# Altium footprint library hsbest.PcbLib: 389 footprints (part 4 of 25)
Each footprint in its own frame and in the unit in brackets; x right, y up, seen from the top. Pads: shape width x height; smd on the part's side, far side on the other; paste and mask are expansions set on the pad; w line width, h text height; cw(c..) or ccw(c..) is an arc to the next point about the centre after c.
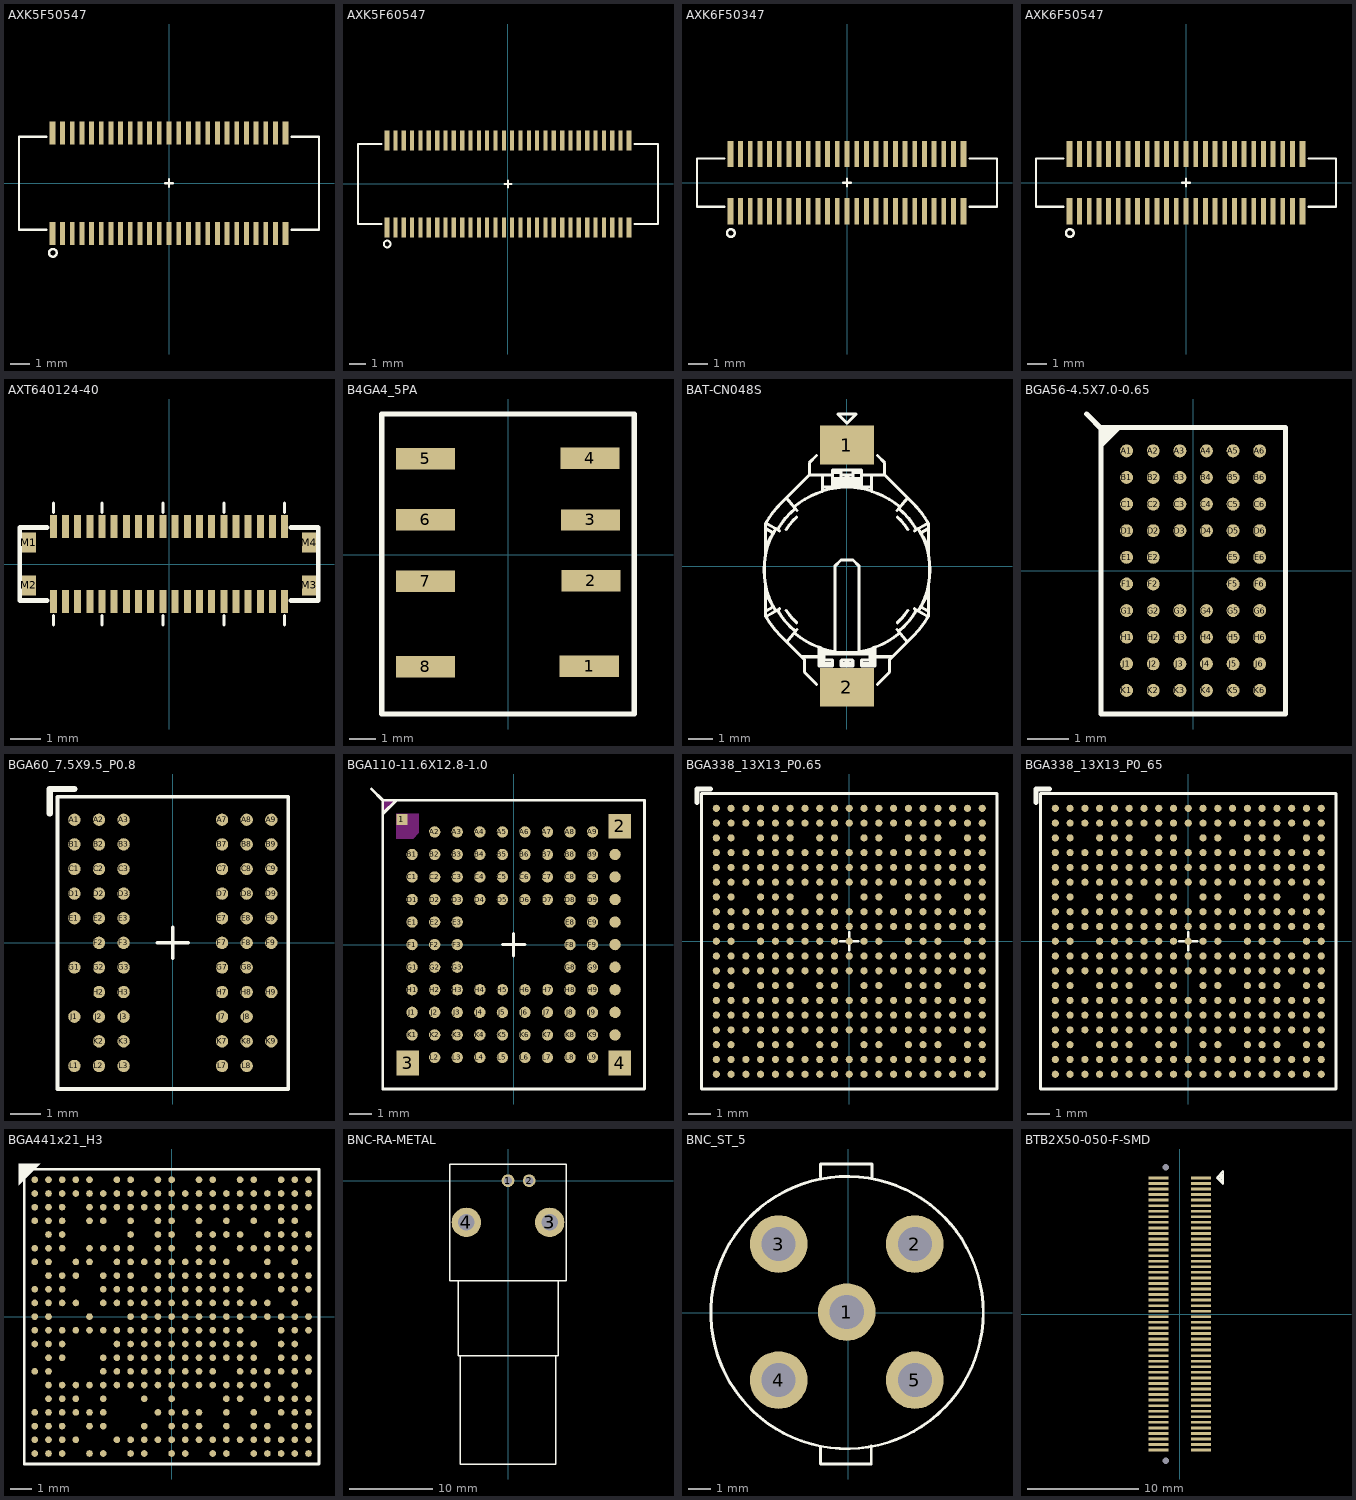
[diagram p3: the footprints below, top view; thin cyan lines are the x and y axes]

## AXK5F50547 [mm]
pads (50):
  rect 0.3x1.2 smd: 1(-6.025,-2.6) 2(-6.025,2.6) 49(6.025,-2.6) 50(6.025,2.6)
  rect 0.25x1.2 smd: 3(-5.5,-2.6) 4(-5.5,2.6) 5(-5,-2.6) 6(-5,2.6) 7(-4.5,-2.6) 8(-4.5,2.6) 9(-4,-2.6) 10(-4,2.6) 11(-3.5,-2.6) 12(-3.5,2.6) 13(-3,-2.6) 14(-3,2.6) 15(-2.5,-2.6) 16(-2.5,2.6) 17(-2,-2.6) 18(-2,2.6) 19(-1.5,-2.6) 20(-1.5,2.6) 21(-1,-2.6) 22(-1,2.6) 23(-0.5,-2.6) 24(-0.5,2.6) 25(0,-2.6) 26(0,2.6) 27(0.5,-2.6) 28(0.5,2.6) 29(1,-2.6) 30(1,2.6) 31(1.5,-2.6) 32(1.5,2.6) 33(2,-2.6) 34(2,2.6) 35(2.5,-2.6) 36(2.5,2.6) 37(3,-2.6) 38(3,2.6) 39(3.5,-2.6) 40(3.5,2.6) 41(4,-2.6) 42(4,2.6) 43(4.5,-2.6) 44(4.5,2.6) 45(5,-2.6) 46(5,2.6) 47(5.5,-2.6) 48(5.5,2.6)
Top Overlay:
  circle w0.12: c-6,-3.6 r0.2
  lines w0.12: -6.35,-2.4 -7.75,-2.4 -7.75,2.4 -6.35,2.4 ; -0.2,0 0.2,0 ; 0,-0.2 0,0.2 ; 6.35,-2.4 7.75,-2.4 7.75,2.4 6.35,2.4
3D body: height 1.85, standoff 0, extent -7.75,-2.912 7.75,2.888

## AXK5F60547 [mm]
pads (60):
  rect 0.3x1.2 smd: 1(-7.275,-2.6) 2(-7.275,2.6) 59(7.275,-2.6) 60(7.275,2.6)
  rect 0.25x1.2 smd: 3(-6.75,-2.6) 4(-6.75,2.6) 5(-6.25,-2.6) 6(-6.25,2.6) 7(-5.75,-2.6) 8(-5.75,2.6) 9(-5.25,-2.6) 10(-5.25,2.6) 11(-4.75,-2.6) 12(-4.75,2.6) 13(-4.25,-2.6) 14(-4.25,2.6) 15(-3.75,-2.6) 16(-3.75,2.6) 17(-3.25,-2.6) 18(-3.25,2.6) 19(-2.75,-2.6) 20(-2.75,2.6) 21(-2.25,-2.6) 22(-2.25,2.6) 23(-1.75,-2.6) 24(-1.75,2.6) 25(-1.25,-2.6) 26(-1.25,2.6) 27(-0.75,-2.6) 28(-0.75,2.6) 29(-0.25,-2.6) 30(-0.25,2.6) 31(0.25,-2.6) 32(0.25,2.6) 33(0.75,-2.6) 34(0.75,2.6) 35(1.25,-2.6) 36(1.25,2.6) 37(1.75,-2.6) 38(1.75,2.6) 39(2.25,-2.6) 40(2.25,2.6) 41(2.75,-2.6) 42(2.75,2.6) 43(3.25,-2.6) 44(3.25,2.6) 45(3.75,-2.6) 46(3.75,2.6) 47(4.25,-2.6) 48(4.25,2.6) 49(4.75,-2.6) 50(4.75,2.6) 51(5.25,-2.6) 52(5.25,2.6) 53(5.75,-2.6) 54(5.75,2.6) 55(6.25,-2.6) 56(6.25,2.6) 57(6.75,-2.6) 58(6.75,2.6)
Top Overlay:
  circle w0.12: c-7.25,-3.6 r0.2
  lines w0.12: -7.6,-2.4 -9,-2.4 -9,2.4 -7.6,2.4 ; -0.2,0 0.2,0 ; 0,-0.2 0,0.2 ; 7.6,-2.4 9,-2.4 9,2.4 7.6,2.4

## AXK6F50347 [mm]
pads (50):
  rect 0.3x1.35 smd: 1(-6.025,-1.475) 2(-6.025,1.475) 49(6.025,-1.475) 50(6.025,1.475)
  rect 0.25x1.35 smd: 3(-5.5,-1.475) 4(-5.5,1.475) 5(-5,-1.475) 6(-5,1.475) 7(-4.5,-1.475) 8(-4.5,1.475) 9(-4,-1.475) 10(-4,1.475) 11(-3.5,-1.475) 12(-3.5,1.475) 13(-3,-1.475) 14(-3,1.475) 15(-2.5,-1.475) 16(-2.5,1.475) 17(-2,-1.475) 18(-2,1.475) 19(-1.5,-1.475) 20(-1.5,1.475) 21(-1,-1.475) 22(-1,1.475) 23(-0.5,-1.475) 24(-0.5,1.475) 25(0,-1.475) 26(0,1.475) 27(0.5,-1.475) 28(0.5,1.475) 29(1,-1.475) 30(1,1.475) 31(1.5,-1.475) 32(1.5,1.475) 33(2,-1.475) 34(2,1.475) 35(2.5,-1.475) 36(2.5,1.475) 37(3,-1.475) 38(3,1.475) 39(3.5,-1.475) 40(3.5,1.475) 41(4,-1.475) 42(4,1.475) 43(4.5,-1.475) 44(4.5,1.475) 45(5,-1.475) 46(5,1.475) 47(5.5,-1.475) 48(5.5,1.475)
Top Overlay:
  circle w0.12: c-6,-2.6 r0.2
  lines w0.12: -6.35,-1.25 -7.75,-1.25 -7.75,1.25 -6.35,1.25 ; -0.2,0 0.2,0 ; 0,-0.2 0,0.2 ; 6.35,-1.25 7.75,-1.25 7.75,1.25 6.35,1.25
3D body: height 1.25, standoff 0, extent -7.746,-1.66 7.754,1.64

## AXK6F50547 [mm]
pads (50):
  rect 0.3x1.35 smd: 1(-6.025,-1.475) 2(-6.025,1.475) 49(6.025,-1.475) 50(6.025,1.475)
  rect 0.25x1.35 smd: 3(-5.5,-1.475) 4(-5.5,1.475) 5(-5,-1.475) 6(-5,1.475) 7(-4.5,-1.475) 8(-4.5,1.475) 9(-4,-1.475) 10(-4,1.475) 11(-3.5,-1.475) 12(-3.5,1.475) 13(-3,-1.475) 14(-3,1.475) 15(-2.5,-1.475) 16(-2.5,1.475) 17(-2,-1.475) 18(-2,1.475) 19(-1.5,-1.475) 20(-1.5,1.475) 21(-1,-1.475) 22(-1,1.475) 23(-0.5,-1.475) 24(-0.5,1.475) 25(0,-1.475) 26(0,1.475) 27(0.5,-1.475) 28(0.5,1.475) 29(1,-1.475) 30(1,1.475) 31(1.5,-1.475) 32(1.5,1.475) 33(2,-1.475) 34(2,1.475) 35(2.5,-1.475) 36(2.5,1.475) 37(3,-1.475) 38(3,1.475) 39(3.5,-1.475) 40(3.5,1.475) 41(4,-1.475) 42(4,1.475) 43(4.5,-1.475) 44(4.5,1.475) 45(5,-1.475) 46(5,1.475) 47(5.5,-1.475) 48(5.5,1.475)
Top Overlay:
  circle w0.12: c-6,-2.6 r0.2
  lines w0.12: -6.35,-1.25 -7.75,-1.25 -7.75,1.25 -6.35,1.25 ; -0.2,0 0.2,0 ; 0,-0.2 0,0.2 ; 6.35,-1.25 7.75,-1.25 7.75,1.25 6.35,1.25

## AXT640124-40 [mm]
pads (44):
  rect 0.23x0.75 smd: G1(-3.8,1.23) G2(-3.4,1.23) G3(-3,1.23) G4(-2.6,1.23) G5(-2.2,1.23) G6(-1.8,1.23) G7(-1.4,1.23) G8(-1,1.23) G9(-0.6,1.23) G10(-0.2,1.23) G11(0.2,1.23) G12(0.6,1.23) G13(1,1.23) G14(1.4,1.23) G15(1.8,1.23) G16(2.2,1.23) G17(2.6,1.23) G18(3,1.23) G19(3.4,1.23) G20(3.8,1.23) H1(-3.8,-1.23) H2(-3.4,-1.23) H3(-3,-1.23) H4(-2.6,-1.23) H5(-2.2,-1.23) H6(-1.8,-1.23) H7(-1.4,-1.23) H8(-1,-1.23) H9(-0.6,-1.23) H10(-0.2,-1.23) H11(0.2,-1.23) H12(0.6,-1.23) H13(1,-1.23) H14(1.4,-1.23) H15(1.8,-1.23) H16(2.2,-1.23) H17(2.6,-1.23) H18(3,-1.23) H19(3.4,-1.23) H20(3.8,-1.23)
  rect 0.45x0.655 smd: M1(-4.6,0.7) M2(-4.6,-0.7) M3(4.6,-0.7) M4(4.6,0.7)
Top Overlay:
  lines w0.1: -3.8,-2 -3.8,-1.7 ; -3.8,1.7 -3.8,2 ; -2.2,-2 -2.2,-1.7 ; -2.2,1.7 -2.2,2 ; -0.2,-2 -0.2,-1.7 ; -0.2,1.7 -0.2,2 ; 1.8,-2 1.8,-1.7 ; 1.8,1.7 1.8,2 ; 3.8,-2 3.8,-1.7 ; 3.8,1.7 3.8,2
  lines w0.15: -4,-1.2 -4.9,-1.2 -4.9,1.2 -4,1.2 ; 4,-1.2 4.9,-1.2 4.9,1.2 4,1.2

## B4GA4_5PA [mm]
pads (8):
  rect 2.2x0.8 smd: 1(3.015,-4.162) 2(3.072,-0.975) 3(3.059,1.289) 4(3.038,3.581) 5(-3.091,3.567) 6(-3.091,1.296) 7(-3.091,-0.987) 8(-3.091,-4.18)
Top Overlay:
  lines w0.2: -4.711,-5.938 -4.711,5.238 4.687,5.238 4.687,-5.938 -4.711,-5.938

## BAT-CN048S [mm]
pads (2):
  rect 2.2x1.6 smd: 1(0,4.975) 2(0,-4.975)
Top Overlay:
  drawing of 249 lines, arcs and shapes, not listed
3D body: height 2.8, standoff 0, extent -3.385,-5.218 3.315,5.182

## BGA56-4.5X7.0-0.65 [mm]
pads (56):
  round 0.315 smd: A1(-1.625,2.925) A2(-0.975,2.925) A3(-0.325,2.925) A4(0.325,2.925) A5(0.975,2.925) A6(1.625,2.925) B1(-1.625,2.275) B2(-0.975,2.275) B3(-0.325,2.275) B4(0.325,2.275) B5(0.975,2.275) B6(1.625,2.275) C1(-1.625,1.625) C2(-0.975,1.625) C3(-0.325,1.625) C4(0.325,1.625) C5(0.975,1.625) C6(1.625,1.625) D1(-1.625,0.975) D2(-0.975,0.975) D3(-0.325,0.975) D4(0.325,0.975) D5(0.975,0.975) D6(1.625,0.975) E1(-1.625,0.325) E2(-0.975,0.325) E5(0.975,0.325) E6(1.625,0.325) F1(-1.625,-0.325) F2(-0.975,-0.325) F5(0.975,-0.325) F6(1.625,-0.325) G1(-1.625,-0.975) G2(-0.975,-0.975) G3(-0.325,-0.975) G4(0.325,-0.975) G5(0.975,-0.975) G6(1.625,-0.975) H1(-1.625,-1.625) H2(-0.975,-1.625) H3(-0.325,-1.625) H4(0.325,-1.625) H5(0.975,-1.625) H6(1.625,-1.625) J1(-1.625,-2.275) J2(-0.975,-2.275) J3(-0.325,-2.275) J4(0.325,-2.275) J5(0.975,-2.275) J6(1.625,-2.275) K1(-1.625,-2.925) K2(-0.975,-2.925) K3(-0.325,-2.925) K4(0.325,-2.925) K5(0.975,-2.925) K6(1.625,-2.925)
Top Overlay:
  lines w0.125: -2.6,3.825 -2.2,3.425 ; -2.25,3.063 -1.813,3.5 ; -2.25,3.125 -1.875,3.5 ; -2.25,3.25 -2,3.5 ; -2.25,-3.5 -2.25,3.5 2.25,3.5 2.25,-3.5 -2.25,-3.5

## BGA60_7.5X9.5_P0.8 [mm]
height 1.1
pads (60):
  round 0.4 smd: A1(-3.2,4) A2(-2.4,4) A3(-1.6,4) A7(1.6,4) A8(2.4,4) A9(3.2,4) B1(-3.2,3.2) B2(-2.4,3.2) B3(-1.6,3.2) B7(1.6,3.2) B8(2.4,3.2) B9(3.2,3.2) C1(-3.2,2.4) C2(-2.4,2.4) C3(-1.6,2.4) C7(1.6,2.4) C8(2.4,2.4) C9(3.2,2.4) D1(-3.2,1.6) D2(-2.4,1.6) D3(-1.6,1.6) D7(1.6,1.6) D8(2.4,1.6) D9(3.2,1.6) E1(-3.2,0.8) E2(-2.4,0.8) E3(-1.6,0.8) E7(1.6,0.8) E8(2.4,0.8) E9(3.2,0.8) F2(-2.4,0) F3(-1.6,0) F7(1.6,0) F8(2.4,0) F9(3.2,0) G1(-3.2,-0.8) G2(-2.4,-0.8) G3(-1.6,-0.8) G7(1.6,-0.8) G8(2.4,-0.8) H2(-2.4,-1.6) H3(-1.6,-1.6) H7(1.6,-1.6) H8(2.4,-1.6) H9(3.2,-1.6) J1(-3.2,-2.4) J2(-2.4,-2.4) J3(-1.6,-2.4) J7(1.6,-2.4) J8(2.4,-2.4) K2(-2.4,-3.2) K3(-1.6,-3.2) K7(1.6,-3.2) K8(2.4,-3.2) K9(3.2,-3.2) L1(-3.2,-4) L2(-2.4,-4) L3(-1.6,-4) L7(1.6,-4) L8(2.4,-4)
Top Overlay:
  lines w0.12: -0.5,0 0,0 ; 0,-0.5 0,0 ; 0,0.5 0,0 ; 0.5,0 0,0 ; -3.75,-4.75 3.75,-4.75 3.75,4.75 -3.75,4.75 -3.75,-4.75
  lines w0.2: -4,4.2 -4,5 -3.2,5

## BGA110-11.6X12.8-1.0 [mm]
pads (98):
  rect 0.5x0.5 smd: 1(-4.95,5.55)
  rect 1x1.1 smd: 2(4.7,5.25) 3(-4.7,-5.25) 4(4.7,-5.25)
  round 0.5 smd: A2(-3.5,5) A3(-2.5,5) A4(-1.5,5) A5(-0.5,5) A6(0.5,5) A7(1.5,5) A8(2.5,5) A9(3.5,5) B1(-4.5,4) B2(-3.5,4) B3(-2.5,4) B4(-1.5,4) B5(-0.5,4) B6(0.5,4) B7(1.5,4) B8(2.5,4) B9(3.5,4) B10(4.5,4) C1(-4.5,3) C2(-3.5,3) C3(-2.5,3) C4(-1.5,3) C5(-0.5,3) C6(0.5,3) C7(1.5,3) C8(2.5,3) C9(3.5,3) C10(4.5,3) D1(-4.5,2) D2(-3.5,2) D3(-2.5,2) D4(-1.5,2) D5(-0.5,2) D6(0.5,2) D7(1.5,2) D8(2.5,2) D9(3.5,2) D10(4.5,2) E1(-4.5,1) E2(-3.5,1) E3(-2.5,1) E8(2.5,1) E9(3.5,1) E10(4.5,1) F1(-4.5,0) F2(-3.5,0) F3(-2.5,0) F8(2.5,0) F9(3.5,0) F10(4.5,0) G1(-4.5,-1) G2(-3.5,-1) G3(-2.5,-1) G8(2.5,-1) G9(3.5,-1) G10(4.5,-1) H1(-4.5,-2) H2(-3.5,-2) H3(-2.5,-2) H4(-1.5,-2) H5(-0.5,-2) H6(0.5,-2) H7(1.5,-2) H8(2.5,-2) H9(3.5,-2) H10(4.5,-2) J1(-4.5,-3) J2(-3.5,-3) J3(-2.5,-3) J4(-1.5,-3) J5(-0.5,-3) J6(0.5,-3) J7(1.5,-3) J8(2.5,-3) J9(3.5,-3) J10(4.5,-3) K1(-4.5,-4) K2(-3.5,-4) K3(-2.5,-4) K4(-1.5,-4) K5(-0.5,-4) K6(0.5,-4) K7(1.5,-4) K8(2.5,-4) K9(3.5,-4) K10(4.5,-4) L2(-3.5,-5) L3(-2.5,-5) L4(-1.5,-5) L5(-0.5,-5) L6(0.5,-5) L7(1.5,-5) L8(2.5,-5) L9(3.5,-5)
Top Overlay:
  lines w0.125: -6.3,6.9 -5.8,6.4 ; -0.5,0 0,0 ; 0,-0.5 0,0 ; 0,0.5 0,0 ; 0.5,0 0,0 ; -5.8,-6.4 -5.8,6.4 ; -5.8,-6.4 5.8,-6.4 ; -5.8,-6.4 5.8,-6.4 ; -5.8,-6.4 -5.8,5.8 -5.2,6.4 5.8,6.4 ; -5.8,6.4 5.8,6.4 ; 5.8,-6.4 5.8,6.4 ; 5.8,-6.4 5.8,6.4
Keep-Out Layer:
  region: -4.2,5.8 -5.2,5.8 -5.2,4.7 -4.45,4.7 -4.2,4.95
  region: -5.8,6.4 -5.8,5.8 -5.2,6.4

## BGA338_13X13_P0.65 [mm]
height 1.3
pads (338):
  round 0.315 smd: A1(-5.85,5.85) A2(-5.2,5.85) A3(-4.55,5.85) A4(-3.9,5.85) A5(-3.25,5.85) A6(-2.6,5.85) A7(-1.95,5.85) A8(-1.3,5.85) A9(-0.65,5.85) A10(0,5.85) A11(0.65,5.85) A12(1.3,5.85) A13(1.95,5.85) A14(2.6,5.85) A15(3.25,5.85) A16(3.9,5.85) A17(4.55,5.85) A18(5.2,5.85) A19(5.85,5.85) B1(-5.85,5.2) B2(-5.2,5.2) B3(-4.55,5.2) B4(-3.9,5.2) B5(-3.25,5.2) B6(-2.6,5.2) B7(-1.95,5.2) B8(-1.3,5.2) B9(-0.65,5.2) B10(0,5.2) B11(0.65,5.2) B12(1.3,5.2) B13(1.95,5.2) B14(2.6,5.2) B15(3.25,5.2) B16(3.9,5.2) B17(4.55,5.2) B18(5.2,5.2) B19(5.85,5.2) C1(-5.85,4.55) C2(-5.2,4.55) C4(-3.9,4.55) C5(-3.25,4.55) C6(-2.6,4.55) C8(-1.3,4.55) C9(-0.65,4.55) C11(0.65,4.55) C12(1.3,4.55) C14(2.6,4.55) C15(3.25,4.55) C16(3.9,4.55) C18(5.2,4.55) C19(5.85,4.55) D1(-5.85,3.9) D2(-5.2,3.9) D3(-4.55,3.9) D4(-3.9,3.9) D5(-3.25,3.9) D6(-2.6,3.9) D7(-1.95,3.9) D8(-1.3,3.9) D9(-0.65,3.9) D10(0,3.9) D11(0.65,3.9) D12(1.3,3.9) D13(1.95,3.9) D14(2.6,3.9) D15(3.25,3.9) D16(3.9,3.9) D17(4.55,3.9) D18(5.2,3.9) D19(5.85,3.9) E1(-5.85,3.25) E2(-5.2,3.25) E3(-4.55,3.25) E4(-3.9,3.25) E5(-3.25,3.25) E6(-2.6,3.25) E7(-1.95,3.25) E8(-1.3,3.25) E9(-0.65,3.25) E10(0,3.25) E11(0.65,3.25) E12(1.3,3.25) E13(1.95,3.25) E14(2.6,3.25) E15(3.25,3.25) E16(3.9,3.25) E17(4.55,3.25) E18(5.2,3.25) E19(5.85,3.25) F1(-5.85,2.6) F2(-5.2,2.6) F3(-4.55,2.6) F4(-3.9,2.6) F5(-3.25,2.6) F6(-2.6,2.6) F7(-1.95,2.6) F8(-1.3,2.6) F9(-0.65,2.6) F10(0,2.6) F11(0.65,2.6) F12(1.3,2.6) F13(1.95,2.6) F14(2.6,2.6) F15(3.25,2.6) F16(3.9,2.6) F17(4.55,2.6) F18(5.2,2.6) F19(5.85,2.6) G1(-5.85,1.95) G2(-5.2,1.95) G4(-3.9,1.95) G5(-3.25,1.95) G6(-2.6,1.95) G8(-1.3,1.95) G9(-0.65,1.95) G11(0.65,1.95) G12(1.3,1.95) G14(2.6,1.95) G15(3.25,1.95) G16(3.9,1.95) G18(5.2,1.95) G19(5.85,1.95) H1(-5.85,1.3) H2(-5.2,1.3) H3(-4.55,1.3) H4(-3.9,1.3) H5(-3.25,1.3) H6(-2.6,1.3) H7(-1.95,1.3) H8(-1.3,1.3) H9(-0.65,1.3) H10(0,1.3) H11(0.65,1.3) H12(1.3,1.3) H13(1.95,1.3) H14(2.6,1.3) H15(3.25,1.3) H16(3.9,1.3) H17(4.55,1.3) H18(5.2,1.3) H19(5.85,1.3) J1(-5.85,0.65) J2(-5.2,0.65) J3(-4.55,0.65) J4(-3.9,0.65) J5(-3.25,0.65) J6(-2.6,0.65) J7(-1.95,0.65) J8(-1.3,0.65) J9(-0.65,0.65) J10(0,0.65) J11(0.65,0.65) J12(1.3,0.65) J13(1.95,0.65) J14(2.6,0.65) J15(3.25,0.65) J16(3.9,0.65) J17(4.55,0.65) J18(5.2,0.65) J19(5.85,0.65) K1(-5.85,0) K2(-5.2,0) K4(-3.9,0) K5(-3.25,0) K6(-2.6,0) K7(-1.95,0) K8(-1.3,0) K9(-0.65,0) K10(0,0) K11(0.65,0) K12(1.3,0) K14(2.6,0) K15(3.25,0) K16(3.9,0) K18(5.2,0) K19(5.85,0) L1(-5.85,-0.65) L2(-5.2,-0.65) L3(-4.55,-0.65) L4(-3.9,-0.65) L5(-3.25,-0.65) L6(-2.6,-0.65) L7(-1.95,-0.65) L8(-1.3,-0.65) L9(-0.65,-0.65) L10(0,-0.65) L11(0.65,-0.65) L12(1.3,-0.65) L13(1.95,-0.65) L14(2.6,-0.65) L15(3.25,-0.65) L16(3.9,-0.65) L17(4.55,-0.65) L18(5.2,-0.65) L19(5.85,-0.65) M1(-5.85,-1.3) M2(-5.2,-1.3) M3(-4.55,-1.3) M4(-3.9,-1.3) M5(-3.25,-1.3) M6(-2.6,-1.3) M7(-1.95,-1.3) M8(-1.3,-1.3) M9(-0.65,-1.3) M10(0,-1.3) M11(0.65,-1.3) M12(1.3,-1.3) M13(1.95,-1.3) M14(2.6,-1.3) M15(3.25,-1.3) M16(3.9,-1.3) M17(4.55,-1.3) M18(5.2,-1.3) M19(5.85,-1.3) N1(-5.85,-1.95) N2(-5.2,-1.95) N4(-3.9,-1.95) N5(-3.25,-1.95) N6(-2.6,-1.95) N8(-1.3,-1.95) N9(-0.65,-1.95) N11(0.65,-1.95) N12(1.3,-1.95) N14(2.6,-1.95) N15(3.25,-1.95) N16(3.9,-1.95) N18(5.2,-1.95) N19(5.85,-1.95) P1(-5.85,-2.6) P2(-5.2,-2.6) P3(-4.55,-2.6) P4(-3.9,-2.6) P5(-3.25,-2.6) P6(-2.6,-2.6) P7(-1.95,-2.6) P8(-1.3,-2.6) P9(-0.65,-2.6) P10(0,-2.6) P11(0.65,-2.6) P12(1.3,-2.6) P13(1.95,-2.6) P14(2.6,-2.6) P15(3.25,-2.6) P16(3.9,-2.6) P17(4.55,-2.6) P18(5.2,-2.6) P19(5.85,-2.6) R1(-5.85,-3.25) R2(-5.2,-3.25) R3(-4.55,-3.25) R4(-3.9,-3.25) R5(-3.25,-3.25) R6(-2.6,-3.25) R7(-1.95,-3.25) R8(-1.3,-3.25) R9(-0.65,-3.25) R10(0,-3.25) R11(0.65,-3.25) R12(1.3,-3.25) R13(1.95,-3.25) R14(2.6,-3.25) R15(3.25,-3.25) R16(3.9,-3.25) R17(4.55,-3.25) R18(5.2,-3.25) R19(5.85,-3.25) T1(-5.85,-3.9) T2(-5.2,-3.9) T3(-4.55,-3.9) T4(-3.9,-3.9) T5(-3.25,-3.9) T6(-2.6,-3.9) T7(-1.95,-3.9) T8(-1.3,-3.9) T9(-0.65,-3.9) T10(0,-3.9) T11(0.65,-3.9) T12(1.3,-3.9) T13(1.95,-3.9) T14(2.6,-3.9) T15(3.25,-3.9) T16(3.9,-3.9) T17(4.55,-3.9) T18(5.2,-3.9) T19(5.85,-3.9) U1(-5.85,-4.55) U2(-5.2,-4.55) U4(-3.9,-4.55) U5(-3.25,-4.55) U6(-2.6,-4.55) U8(-1.3,-4.55) U9(-0.65,-4.55) U11(0.65,-4.55) U12(1.3,-4.55) U14(2.6,-4.55) U15(3.25,-4.55) U16(3.9,-4.55) U18(5.2,-4.55) U19(5.85,-4.55) V1(-5.85,-5.2) V2(-5.2,-5.2) V3(-4.55,-5.2) V4(-3.9,-5.2) V5(-3.25,-5.2) V6(-2.6,-5.2) V7(-1.95,-5.2) V8(-1.3,-5.2) V9(-0.65,-5.2) V10(0,-5.2) V11(0.65,-5.2) V12(1.3,-5.2) V13(1.95,-5.2) V14(2.6,-5.2) V15(3.25,-5.2) V16(3.9,-5.2) V17(4.55,-5.2) V18(5.2,-5.2) V19(5.85,-5.2) W1(-5.85,-5.85) W2(-5.2,-5.85) W3(-4.55,-5.85) W4(-3.9,-5.85) W5(-3.25,-5.85) W6(-2.6,-5.85) W7(-1.95,-5.85) W8(-1.3,-5.85) W9(-0.65,-5.85) W10(0,-5.85) W11(0.65,-5.85) W12(1.3,-5.85) W13(1.95,-5.85) W14(2.6,-5.85) W15(3.25,-5.85) W16(3.9,-5.85) W17(4.55,-5.85) W18(5.2,-5.85) W19(5.85,-5.85)
Top Overlay:
  lines w0.12: -0.4,0 0,0 ; 0,-0.4 0,0 ; 0,0.4 0,0 ; 0.4,0 0,0 ; -6.5,-6.5 6.5,-6.5 6.5,6.5 -6.5,6.5 -6.5,-6.5
  lines w0.2: -6.7,6.1 -6.7,6.7 -6.1,6.7
3D body: height 1.3, standoff 0, extent -6.507,-6.479 6.493,6.521

## BGA338_13X13_P0_65 [mm]
height 1.3
pads (338):
  round 0.315 smd: A1(-5.85,5.85) A2(-5.2,5.85) A3(-4.55,5.85) A4(-3.9,5.85) A5(-3.25,5.85) A6(-2.6,5.85) A7(-1.95,5.85) A8(-1.3,5.85) A9(-0.65,5.85) A10(0,5.85) A11(0.65,5.85) A12(1.3,5.85) A13(1.95,5.85) A14(2.6,5.85) A15(3.25,5.85) A16(3.9,5.85) A17(4.55,5.85) A18(5.2,5.85) A19(5.85,5.85) B1(-5.85,5.2) B2(-5.2,5.2) B3(-4.55,5.2) B4(-3.9,5.2) B5(-3.25,5.2) B6(-2.6,5.2) B7(-1.95,5.2) B8(-1.3,5.2) B9(-0.65,5.2) B10(0,5.2) B11(0.65,5.2) B12(1.3,5.2) B13(1.95,5.2) B14(2.6,5.2) B15(3.25,5.2) B16(3.9,5.2) B17(4.55,5.2) B18(5.2,5.2) B19(5.85,5.2) C1(-5.85,4.55) C2(-5.2,4.55) C4(-3.9,4.55) C5(-3.25,4.55) C6(-2.6,4.55) C8(-1.3,4.55) C9(-0.65,4.55) C11(0.65,4.55) C12(1.3,4.55) C14(2.6,4.55) C15(3.25,4.55) C16(3.9,4.55) C18(5.2,4.55) C19(5.85,4.55) D1(-5.85,3.9) D2(-5.2,3.9) D3(-4.55,3.9) D4(-3.9,3.9) D5(-3.25,3.9) D6(-2.6,3.9) D7(-1.95,3.9) D8(-1.3,3.9) D9(-0.65,3.9) D10(0,3.9) D11(0.65,3.9) D12(1.3,3.9) D13(1.95,3.9) D14(2.6,3.9) D15(3.25,3.9) D16(3.9,3.9) D17(4.55,3.9) D18(5.2,3.9) D19(5.85,3.9) E1(-5.85,3.25) E2(-5.2,3.25) E3(-4.55,3.25) E4(-3.9,3.25) E5(-3.25,3.25) E6(-2.6,3.25) E7(-1.95,3.25) E8(-1.3,3.25) E9(-0.65,3.25) E10(0,3.25) E11(0.65,3.25) E12(1.3,3.25) E13(1.95,3.25) E14(2.6,3.25) E15(3.25,3.25) E16(3.9,3.25) E17(4.55,3.25) E18(5.2,3.25) E19(5.85,3.25) F1(-5.85,2.6) F2(-5.2,2.6) F3(-4.55,2.6) F4(-3.9,2.6) F5(-3.25,2.6) F6(-2.6,2.6) F7(-1.95,2.6) F8(-1.3,2.6) F9(-0.65,2.6) F10(0,2.6) F11(0.65,2.6) F12(1.3,2.6) F13(1.95,2.6) F14(2.6,2.6) F15(3.25,2.6) F16(3.9,2.6) F17(4.55,2.6) F18(5.2,2.6) F19(5.85,2.6) G1(-5.85,1.95) G2(-5.2,1.95) G4(-3.9,1.95) G5(-3.25,1.95) G6(-2.6,1.95) G8(-1.3,1.95) G9(-0.65,1.95) G11(0.65,1.95) G12(1.3,1.95) G14(2.6,1.95) G15(3.25,1.95) G16(3.9,1.95) G18(5.2,1.95) G19(5.85,1.95) H1(-5.85,1.3) H2(-5.2,1.3) H3(-4.55,1.3) H4(-3.9,1.3) H5(-3.25,1.3) H6(-2.6,1.3) H7(-1.95,1.3) H8(-1.3,1.3) H9(-0.65,1.3) H10(0,1.3) H11(0.65,1.3) H12(1.3,1.3) H13(1.95,1.3) H14(2.6,1.3) H15(3.25,1.3) H16(3.9,1.3) H17(4.55,1.3) H18(5.2,1.3) H19(5.85,1.3) J1(-5.85,0.65) J2(-5.2,0.65) J3(-4.55,0.65) J4(-3.9,0.65) J5(-3.25,0.65) J6(-2.6,0.65) J7(-1.95,0.65) J8(-1.3,0.65) J9(-0.65,0.65) J10(0,0.65) J11(0.65,0.65) J12(1.3,0.65) J13(1.95,0.65) J14(2.6,0.65) J15(3.25,0.65) J16(3.9,0.65) J17(4.55,0.65) J18(5.2,0.65) J19(5.85,0.65) K1(-5.85,0) K2(-5.2,0) K4(-3.9,0) K5(-3.25,0) K6(-2.6,0) K7(-1.95,0) K8(-1.3,0) K9(-0.65,0) K10(0,0) K11(0.65,0) K12(1.3,0) K14(2.6,0) K15(3.25,0) K16(3.9,0) K18(5.2,0) K19(5.85,0) L1(-5.85,-0.65) L2(-5.2,-0.65) L3(-4.55,-0.65) L4(-3.9,-0.65) L5(-3.25,-0.65) L6(-2.6,-0.65) L7(-1.95,-0.65) L8(-1.3,-0.65) L9(-0.65,-0.65) L10(0,-0.65) L11(0.65,-0.65) L12(1.3,-0.65) L13(1.95,-0.65) L14(2.6,-0.65) L15(3.25,-0.65) L16(3.9,-0.65) L17(4.55,-0.65) L18(5.2,-0.65) L19(5.85,-0.65) M1(-5.85,-1.3) M2(-5.2,-1.3) M3(-4.55,-1.3) M4(-3.9,-1.3) M5(-3.25,-1.3) M6(-2.6,-1.3) M7(-1.95,-1.3) M8(-1.3,-1.3) M9(-0.65,-1.3) M10(0,-1.3) M11(0.65,-1.3) M12(1.3,-1.3) M13(1.95,-1.3) M14(2.6,-1.3) M15(3.25,-1.3) M16(3.9,-1.3) M17(4.55,-1.3) M18(5.2,-1.3) M19(5.85,-1.3) N1(-5.85,-1.95) N2(-5.2,-1.95) N4(-3.9,-1.95) N5(-3.25,-1.95) N6(-2.6,-1.95) N8(-1.3,-1.95) N9(-0.65,-1.95) N11(0.65,-1.95) N12(1.3,-1.95) N14(2.6,-1.95) N15(3.25,-1.95) N16(3.9,-1.95) N18(5.2,-1.95) N19(5.85,-1.95) P1(-5.85,-2.6) P2(-5.2,-2.6) P3(-4.55,-2.6) P4(-3.9,-2.6) P5(-3.25,-2.6) P6(-2.6,-2.6) P7(-1.95,-2.6) P8(-1.3,-2.6) P9(-0.65,-2.6) P10(0,-2.6) P11(0.65,-2.6) P12(1.3,-2.6) P13(1.95,-2.6) P14(2.6,-2.6) P15(3.25,-2.6) P16(3.9,-2.6) P17(4.55,-2.6) P18(5.2,-2.6) P19(5.85,-2.6) R1(-5.85,-3.25) R2(-5.2,-3.25) R3(-4.55,-3.25) R4(-3.9,-3.25) R5(-3.25,-3.25) R6(-2.6,-3.25) R7(-1.95,-3.25) R8(-1.3,-3.25) R9(-0.65,-3.25) R10(0,-3.25) R11(0.65,-3.25) R12(1.3,-3.25) R13(1.95,-3.25) R14(2.6,-3.25) R15(3.25,-3.25) R16(3.9,-3.25) R17(4.55,-3.25) R18(5.2,-3.25) R19(5.85,-3.25) T1(-5.85,-3.9) T2(-5.2,-3.9) T3(-4.55,-3.9) T4(-3.9,-3.9) T5(-3.25,-3.9) T6(-2.6,-3.9) T7(-1.95,-3.9) T8(-1.3,-3.9) T9(-0.65,-3.9) T10(0,-3.9) T11(0.65,-3.9) T12(1.3,-3.9) T13(1.95,-3.9) T14(2.6,-3.9) T15(3.25,-3.9) T16(3.9,-3.9) T17(4.55,-3.9) T18(5.2,-3.9) T19(5.85,-3.9) U1(-5.85,-4.55) U2(-5.2,-4.55) U4(-3.9,-4.55) U5(-3.25,-4.55) U6(-2.6,-4.55) U8(-1.3,-4.55) U9(-0.65,-4.55) U11(0.65,-4.55) U12(1.3,-4.55) U14(2.6,-4.55) U15(3.25,-4.55) U16(3.9,-4.55) U18(5.2,-4.55) U19(5.85,-4.55) V1(-5.85,-5.2) V2(-5.2,-5.2) V3(-4.55,-5.2) V4(-3.9,-5.2) V5(-3.25,-5.2) V6(-2.6,-5.2) V7(-1.95,-5.2) V8(-1.3,-5.2) V9(-0.65,-5.2) V10(0,-5.2) V11(0.65,-5.2) V12(1.3,-5.2) V13(1.95,-5.2) V14(2.6,-5.2) V15(3.25,-5.2) V16(3.9,-5.2) V17(4.55,-5.2) V18(5.2,-5.2) V19(5.85,-5.2) W1(-5.85,-5.85) W2(-5.2,-5.85) W3(-4.55,-5.85) W4(-3.9,-5.85) W5(-3.25,-5.85) W6(-2.6,-5.85) W7(-1.95,-5.85) W8(-1.3,-5.85) W9(-0.65,-5.85) W10(0,-5.85) W11(0.65,-5.85) W12(1.3,-5.85) W13(1.95,-5.85) W14(2.6,-5.85) W15(3.25,-5.85) W16(3.9,-5.85) W17(4.55,-5.85) W18(5.2,-5.85) W19(5.85,-5.85)
Top Overlay:
  lines w0.12: -0.4,0 0,0 ; 0,-0.4 0,0 ; 0,0.4 0,0 ; 0.4,0 0,0 ; -6.5,-6.5 6.5,-6.5 6.5,6.5 -6.5,6.5 -6.5,-6.5
  lines w0.2: -6.7,6.1 -6.7,6.7 -6.1,6.7
3D body: height 1.3, standoff 0, extent -6.507,-6.479 6.493,6.521

## BGA441x21_H3 [mm]
pads (348):
  round 0.315 smd mask+0: A1(-6.5,6.5)
  round 0.315 smd paste+0 mask+0: A2(-5.85,6.5) A3(-5.2,6.5) A4(-4.55,6.5) A5(-3.9,6.5) A7(-2.6,6.5) A8(-1.95,6.5) A10(-0.65,6.5) A11(0,6.5) A13(1.3,6.5) A14(1.95,6.5) A16(3.25,6.5) A17(3.9,6.5) A19(5.2,6.5) A20(5.85,6.5) A21(6.5,6.5) AA1(-6.5,-6.5) AA2(-5.85,-6.5) AA3(-5.2,-6.5) AA5(-3.9,-6.5) AA6(-3.25,-6.5) AA8(-1.95,-6.5) AA9(-1.3,-6.5) AA11(0,-6.5) AA12(0.65,-6.5) AA14(1.95,-6.5) AA15(2.6,-6.5) AA17(3.9,-6.5) AA18(4.55,-6.5) AA19(5.2,-6.5) AA20(5.85,-6.5) AA21(6.5,-6.5) B1(-6.5,5.85) B2(-5.85,5.85) B3(-5.2,5.85) B4(-4.55,5.85) B5(-3.9,5.85) B6(-3.25,5.85) B7(-2.6,5.85) B8(-1.95,5.85) B9(-1.3,5.85) B10(-0.65,5.85) B11(0,5.85) B12(0.65,5.85) B13(1.3,5.85) B14(1.95,5.85) B15(2.6,5.85) B16(3.25,5.85) B17(3.9,5.85) B18(4.55,5.85) B19(5.2,5.85) B20(5.85,5.85) B21(6.5,5.85) C1(-6.5,5.2) C2(-5.85,5.2) C3(-5.2,5.2) C5(-3.9,5.2) C6(-3.25,5.2) C7(-2.6,5.2) C8(-1.95,5.2) C9(-1.3,5.2) C10(-0.65,5.2) C11(0,5.2) C12(0.65,5.2) C13(1.3,5.2) C14(1.95,5.2) C15(2.6,5.2) C16(3.25,5.2) C17(3.9,5.2) C18(4.55,5.2) C19(5.2,5.2) C20(5.85,5.2) C21(6.5,5.2) D1(-6.5,4.55) D2(-5.85,4.55) D3(-5.2,4.55) D5(-3.9,4.55) D6(-3.25,4.55) D8(-1.95,4.55) D10(-0.65,4.55) D11(0,4.55) D13(1.3,4.55) D15(2.6,4.55) D17(3.9,4.55) D19(5.2,4.55) D20(5.85,4.55) E2(-5.85,3.9) E3(-5.2,3.9) E8(-1.95,3.9) E10(-0.65,3.9) E11(0,3.9) E13(1.3,3.9) E14(1.95,3.9) E15(2.6,3.9) E16(3.25,3.9) E18(4.55,3.9) E19(5.2,3.9) E20(5.85,3.9) E21(6.5,3.9) F1(-6.5,3.25) F2(-5.85,3.25) F3(-5.2,3.25) F5(-3.9,3.25) F6(-3.25,3.25) F7(-2.6,3.25) F8(-1.95,3.25) F10(-0.65,3.25) F11(0,3.25) F13(1.3,3.25) F14(1.95,3.25) F16(3.25,3.25) F17(3.9,3.25) F18(4.55,3.25) F19(5.2,3.25) F20(5.85,3.25) F21(6.5,3.25) G1(-6.5,2.6) G2(-5.85,2.6) G4(-4.55,2.6) G5(-3.9,2.6) G7(-2.6,2.6) G8(-1.95,2.6) G9(-1.3,2.6) G10(-0.65,2.6) G11(0,2.6) G12(0.65,2.6) G13(1.3,2.6) G14(1.95,2.6) G15(2.6,2.6) G18(4.55,2.6) G20(5.85,2.6) H2(-5.85,1.95) H3(-5.2,1.95) H4(-4.55,1.95) H6(-3.25,1.95) H7(-2.6,1.95) H8(-1.95,1.95) H10(-0.65,1.95) H11(0,1.95) H12(0.65,1.95) H13(1.3,1.95) H14(1.95,1.95) H15(2.6,1.95) H16(3.25,1.95) H17(3.9,1.95) H18(4.55,1.95) H19(5.2,1.95) H20(5.85,1.95) H21(6.5,1.95) J1(-6.5,1.3) J2(-5.85,1.3) J3(-5.2,1.3) J6(-3.25,1.3) J7(-2.6,1.3) J8(-1.95,1.3) J9(-1.3,1.3) J10(-0.65,1.3) J11(0,1.3) J12(0.65,1.3) J13(1.3,1.3) J14(1.95,1.3) J15(2.6,1.3) J16(3.25,1.3) J19(5.2,1.3) J20(5.85,1.3) J21(6.5,1.3) K1(-6.5,0.65) K2(-5.85,0.65) K3(-5.2,0.65) K4(-4.55,0.65) K6(-3.25,0.65) K7(-2.6,0.65) K8(-1.95,0.65) K9(-1.3,0.65) K10(-0.65,0.65) K11(0,0.65) K12(0.65,0.65) K13(1.3,0.65) K14(1.95,0.65) K15(2.6,0.65) K16(3.25,0.65) K17(3.9,0.65) K18(4.55,0.65) K20(5.85,0.65) L1(-6.5,0) L2(-5.85,0) L5(-3.9,0) L8(-1.95,0) L9(-1.3,0) L10(-0.65,0) L11(0,0) L12(0.65,0) L13(1.3,0) L14(1.95,0) L15(2.6,0) L16(3.25,0) L17(3.9,0) L18(4.55,0) L19(5.2,0) L20(5.85,0) L21(6.5,0) M1(-6.5,-0.65) M2(-5.85,-0.65) M3(-5.2,-0.65) M4(-4.55,-0.65) M5(-3.9,-0.65) M6(-3.25,-0.65) M7(-2.6,-0.65) M8(-1.95,-0.65) M9(-1.3,-0.65) M10(-0.65,-0.65) M11(0,-0.65) M12(0.65,-0.65) M13(1.3,-0.65) M14(1.95,-0.65) M15(2.6,-0.65) M16(3.25,-0.65) M19(5.2,-0.65) M20(5.85,-0.65) M21(6.5,-0.65) N1(-6.5,-1.3) N2(-5.85,-1.3) N3(-5.2,-1.3) N7(-2.6,-1.3) N8(-1.95,-1.3) N9(-1.3,-1.3) N10(-0.65,-1.3) N11(0,-1.3) N12(0.65,-1.3) N13(1.3,-1.3) N14(1.95,-1.3) N15(2.6,-1.3) N16(3.25,-1.3) N17(3.9,-1.3) N19(5.2,-1.3) N20(5.85,-1.3) P2(-5.85,-1.95) P3(-5.2,-1.95) P6(-3.25,-1.95) P7(-2.6,-1.95) P8(-1.95,-1.95) P9(-1.3,-1.95) P10(-0.65,-1.95) P11(0,-1.95) P12(0.65,-1.95) P13(1.3,-1.95) P14(1.95,-1.95) P15(2.6,-1.95) P16(3.25,-1.95) P17(3.9,-1.95) P19(5.2,-1.95) P20(5.85,-1.95) P21(6.5,-1.95) R1(-6.5,-2.6) R2(-5.85,-2.6) R6(-3.25,-2.6) R7(-2.6,-2.6) R8(-1.95,-2.6) R9(-1.3,-2.6) R10(-0.65,-2.6) R11(0,-2.6) R12(0.65,-2.6) R13(1.3,-2.6) R14(1.95,-2.6) R16(3.25,-2.6) R17(3.9,-2.6) R18(4.55,-2.6) R19(5.2,-2.6) R20(5.85,-2.6) R21(6.5,-2.6) T2(-5.85,-3.25) T3(-5.2,-3.25) T4(-4.55,-3.25) T5(-3.9,-3.25) T6(-3.25,-3.25) T7(-2.6,-3.25) T8(-1.95,-3.25) T9(-1.3,-3.25) T10(-0.65,-3.25) T11(0,-3.25) T12(0.65,-3.25) T13(1.3,-3.25) T14(1.95,-3.25) T15(2.6,-3.25) T16(3.25,-3.25) T17(3.9,-3.25) T18(4.55,-3.25) T20(5.85,-3.25) U2(-5.85,-3.9) U3(-5.2,-3.9) U4(-4.55,-3.9) U6(-3.25,-3.9) U9(-1.3,-3.9) U11(0,-3.9) U15(2.6,-3.9) U16(3.25,-3.9) U18(4.55,-3.9) U19(5.2,-3.9) U20(5.85,-3.9) U21(6.5,-3.9) V1(-6.5,-4.55) V2(-5.85,-4.55) V3(-5.2,-4.55) V4(-4.55,-4.55) V5(-3.9,-4.55) V6(-3.25,-4.55) V10(-0.65,-4.55) V11(0,-4.55) V12(0.65,-4.55) V13(1.3,-4.55) V15(2.6,-4.55) V17(3.9,-4.55) V19(5.2,-4.55) V20(5.85,-4.55) V21(6.5,-4.55) W1(-6.5,-5.2) W2(-5.85,-5.2) W3(-5.2,-5.2) W5(-3.9,-5.2) W6(-3.25,-5.2) W9(-1.3,-5.2) W11(0,-5.2) W12(0.65,-5.2) W13(1.3,-5.2) W15(2.6,-5.2) W17(3.9,-5.2) W18(4.55,-5.2) W20(5.85,-5.2) W21(6.5,-5.2) Y1(-6.5,-5.85) Y2(-5.85,-5.85) Y3(-5.2,-5.85) Y4(-4.55,-5.85) Y7(-2.6,-5.85) Y8(-1.95,-5.85) Y9(-1.3,-5.85) Y10(-0.65,-5.85) Y11(0,-5.85) Y12(0.65,-5.85) Y13(1.3,-5.85) Y14(1.95,-5.85) Y15(2.6,-5.85) Y16(3.25,-5.85) Y17(3.9,-5.85) Y18(4.55,-5.85) Y19(5.2,-5.85) Y20(5.85,-5.85) Y21(6.5,-5.85)
Top Overlay:
  region: -7.25,7.25 -7.25,6.25 -6.25,7.25
  lines w0.127: -7,-7 7,-7 7,7 -7,7 -7,-7

## BNC-RA-METAL [mm] "NF1000"
pads (4):
  rrect100% 1.524x1.524 hole 1: 1(-0.01,0.039) 2(2.53,0.039)
  rrect100% 3.524x3.524 hole 2: 3(4.99,-4.961) 4(-5.01,-4.961)
Top Overlay:
  lines w0.15: -6.01,-11.961 -6.01,-20.961 5.99,-20.961 5.99,-11.961 ; -5.71,-20.961 -5.71,-33.961 5.69,-33.961 5.69,-20.961 ; -7.01,-11.961 6.99,-11.961 6.99,2.039 -7.01,2.039 -7.01,-11.961

## BNC_ST_5 [mm]
pads (5):
  rrect100% 2.54x2.54 hole 1.5: 1(-0.059,0.03) 2(2.941,3.03) 3(-3.059,3.03) 4(-3.059,-2.97) 5(2.941,-2.97)
Top Overlay:
  circle w0.127: c-0.048,0.01 r6.006
  lines w0.127: -1.213,-5.943 -1.213,-6.667 1.024,-6.667 1.024,-5.88 ; -1.213,5.993 -1.213,6.56 1.055,6.56 1.055,5.993

## BTB2X50-050-F-SMD [mm]
pads (102):
  rect 1.8x0.25 smd: 1(1.9,12.25) 2(-1.9,12.25) 3(1.9,11.75) 4(-1.9,11.75) 5(1.9,11.25) 6(-1.9,11.25) 7(1.9,10.75) 8(-1.9,10.75) 9(1.9,10.25) 10(-1.9,10.25) 11(1.9,9.75) 12(-1.9,9.75) 13(1.9,9.25) 14(-1.9,9.25) 15(1.9,8.75) 16(-1.9,8.75) 17(1.9,8.25) 18(-1.9,8.25) 19(1.9,7.75) 20(-1.9,7.75) 21(1.9,7.25) 22(-1.9,7.25) 23(1.9,6.75) 24(-1.9,6.75) 25(1.9,6.25) 26(-1.9,6.25) 27(1.9,5.75) 28(-1.9,5.75) 29(1.9,5.25) 30(-1.9,5.25) 31(1.9,4.75) 32(-1.9,4.75) 33(1.9,4.25) 34(-1.9,4.25) 35(1.9,3.75) 36(-1.9,3.75) 37(1.9,3.25) 38(-1.9,3.25) 39(1.9,2.75) 40(-1.9,2.75) 41(1.9,2.25) 42(-1.9,2.25) 43(1.9,1.75) 44(-1.9,1.75) 45(1.9,1.25) 46(-1.9,1.25) 47(1.9,0.75) 48(-1.9,0.75) 49(1.9,0.25) 50(-1.9,0.25) 51(1.9,-0.25) 52(-1.9,-0.25) 53(1.9,-0.75) 54(-1.9,-0.75) 55(1.9,-1.25) 56(-1.9,-1.25) 57(1.9,-1.75) 58(-1.9,-1.75) 59(1.9,-2.25) 60(-1.9,-2.25) 61(1.9,-2.75) 62(-1.9,-2.75) 63(1.9,-3.25) 64(-1.9,-3.25) 65(1.9,-3.75) 66(-1.9,-3.75) 67(1.9,-4.25) 68(-1.9,-4.25) 69(1.9,-4.75) 70(-1.9,-4.75) 71(1.9,-5.25) 72(-1.9,-5.25) 73(1.9,-5.75) 74(-1.9,-5.75) 75(1.9,-6.25) 76(-1.9,-6.25) 77(1.9,-6.75) 78(-1.9,-6.75) 79(1.9,-7.25) 80(-1.9,-7.25) 81(1.9,-7.75) 82(-1.9,-7.75) 83(1.9,-8.25) 84(-1.9,-8.25) 85(1.9,-8.75) 86(-1.9,-8.75) 87(1.9,-9.25) 88(-1.9,-9.25) 89(1.9,-9.75) 90(-1.9,-9.75) 91(1.9,-10.25) 92(-1.9,-10.25) 93(1.9,-10.75) 94(-1.9,-10.75) 95(1.9,-11.25) 96(-1.9,-11.25) 97(1.9,-11.75) 98(-1.9,-11.75) 99(1.9,-12.25) 100(-1.9,-12.25)
  round 0.5 hole 0.6: M1(-1.25,-13.2) M2(-1.25,13.2)
Top Overlay:
  lines w0.12: 3.325,12.275 3.925,12.875 3.925,11.675 3.325,12.275 ; 3.475,12.275 3.825,12.625 3.825,11.925 3.475,12.275 ; 3.625,12.275 3.725,12.375 3.725,12.175 3.625,12.275